# Altium schematic symbol library resistor_symbol.SchLib: 1 symbol
Pins are listed as number, name and electrical type; pins without a type are passive.

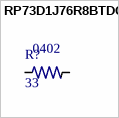
[diagram p0: symbol RP73D1J76R8BTDG]

## RP73D1J76R8BTDG
designator R?, comment 33  foot print: 0402
Res Thin Film 0603 76.8 Ohm 0.1% 1/10W Â±15ppm/Â°C Molded SMD Paper T/R; MP: RP73D1J76R8BTDG; MF: TE Connectivity / Holsworthy; Design by: Faheem; Price: None; Package: 0603 TE Connectivity / AMP; SnapEDA_Link: https://www.snapeda.com/parts/RP73D1J76R8BTDG/TE%20Connectivity%20/%20Holsworthy/view-part/?ref=snap; Value: *; Buying URL:: https://uk.farnell.com/panasonic-electronic-components/erj-u02f33r0x/thick-film-resistor-33ohm-1-0402/dp/2355539?st=33%20ohm%200402%20resistors; Availability: Unavailable
footprint RESC1005X04N (Chip Resistor, 2-Leads, Body 1.00x0.50mm, IPC Medium Density)
pins: 1, 2